# EAGLE library part ST2-BOARD-50-PSU (library module-footprints)
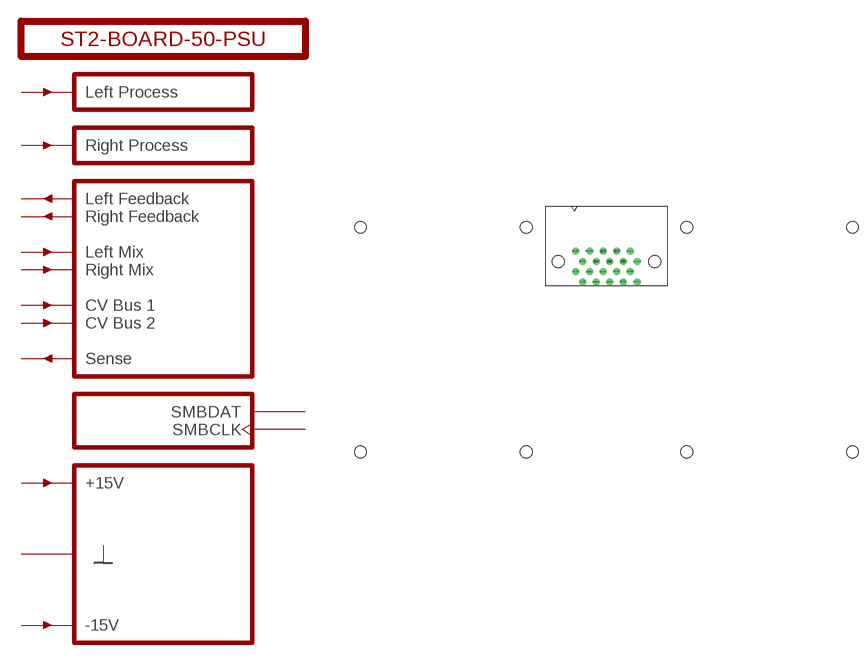
[diagram p1: symbol with the pads of ST2-BOARD-50-PSU; footprint ST2-BOARD-50-PSU]

Designator prefix PCB; gates G$1=VERSION G$2=OUTL G$3=OUTR G$4=BUS-RIGHT G$5=SMBUS G$6=SUPPLY_OUT

## ST2-BOARD-50-PSU  [ST2-BOARD-50-PSU]
A+15'  G$6:P+15V
A-15'  G$6:P-15V
ACV1'  G$4:CV1'
ACV2'  G$4:CV2'
ALFBK'  G$4:LFBK'
ALMIX'  G$4:LMIX'
ARFBK'  G$4:RFBK'
ARMIX'  G$4:RMIX'
ASMBCLK'  G$5:SMBCLK
ASMBDAT'  G$5:SMBDAT
B4'  G$6:GND
B5'  G$6:GND
B6'  G$6:GND
B7'  G$6:GND
B8'  G$6:GND
B+15'  G$6:P+15V
B-15'  G$6:P-15V
BOUTL'  G$2:OUTL
BOUTR'  G$3:OUTR
BSENSE'  G$4:SENSE'

## Footprint ST2-BOARD-50-PSU (pad centres in mm)
drill 0.8: A+15' 44.285,37.69; A-15' 45.555,35.785; ACV1' 51.905,37.69; ACV2' 53.175,35.785; ALFBK' 49.365,37.69; ALMIX' 46.825,37.69; ARFBK' 50.635,35.785; ARMIX' 48.095,35.785; ASMBCLK' 55.715,35.785; ASMBDAT' 54.445,37.69; B4' 48.095,39.595; B5' 49.365,41.5; B6' 50.635,39.595; B7' 51.905,41.5; B8' 53.175,39.595; B+15' 44.285,41.5; B-15' 45.555,39.595; BOUTL' 54.445,41.5; BOUTR' 55.715,39.595; BSENSE' 46.825,41.5
hole 2.2 at 4,4
hole 2.2 at 4,46
hole 2.2 at 96,4
hole 2.2 at 96,46
hole 2.2 at 35,46
hole 2.2 at 65,46
hole 2.2 at 65,4
hole 2.2 at 35,4
hole 2.2 at 40.975,39.595
hole 2.2 at 59.025,39.595